# EAGLE library part IC-SOT23-(6P)-RED2401 (library RediSem_New)
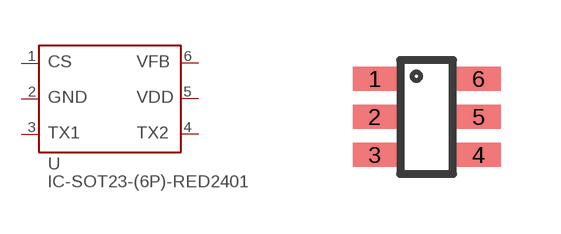
[diagram p4: symbol with the pads of SOT23-(6P); footprint SOT23-(6P)]

Designator prefix -

## IC-SOT23-(6P)-RED2401  [SOT23-(6P)]
1  1
2  2
3  3
4  4
5  5
6  6

## Footprint SOT23-(6P) (pad centres in mm)
smd 1.1 x 0.6: 1 -1.3,0.95; 2 -1.3,0; 3 -1.3,-0.95; 4 1.3,-0.95; 5 1.3,0; 6 1.3,0.95